# EAGLE library part MC74HC32ADR2G (library logic gates)
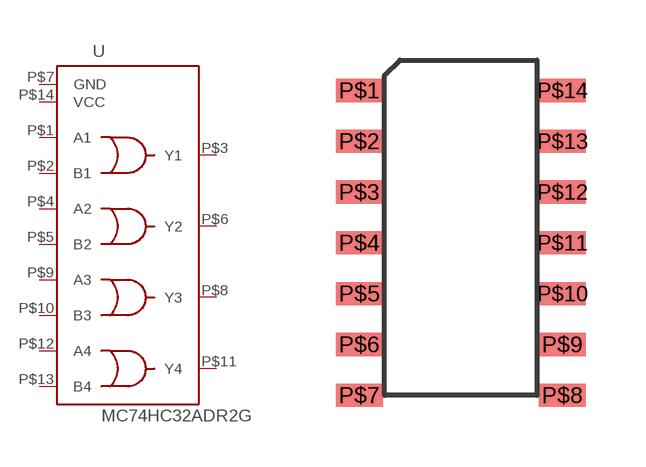
[diagram p0: symbol with the pads of MC74HC32ADR2G; footprint MC74HC32ADR2G]

Designator prefix -

## MC74HC32ADR2GSOIC-14  [MC74HC32ADR2G]
P$1  A1
P$2  B1
P$3  Y1
P$4  A2
P$5  B2
P$6  Y2
P$7  GND
P$8  Y3
P$9  A3
P$10  B3
P$11  Y4
P$12  A4
P$13  B4
P$14  VCC

## Footprint MC74HC32ADR2G (pad centres in mm)
smd 1.18 x 0.58: P$1 0,7.62; P$2 0,6.35; P$3 0,5.08; P$4 0,3.81; P$5 0,2.54; P$6 0,1.27; P$7 0,0; P$8 5.08,0; P$9 5.08,1.27; P$10 5.08,2.54; P$11 5.08,3.81; P$12 5.08,5.08; P$13 5.08,6.35; P$14 5.08,7.62